# Altium schematic symbol library SCH - Amplifier - LM321LV.SchLib: 1 symbol
Pins are listed as number, name and electrical type; pins without a type are passive.

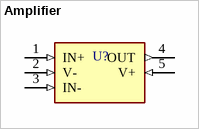
[diagram p0: symbol Amplifier]

## Amplifier
designator U?
pins: 1 IN+ (in), 2 V- (in), 3 IN- (in), 4 OUT (out), 5 V+ (in)